# Altium footprint library Components - 08.08.24 - 17.PcbLib: 1 footprints
Each footprint in its own frame and in the unit in brackets; x right, y up, seen from the top. Pads: shape width x height; smd on the part's side, far side on the other; paste and mask are expansions set on the pad; w line width, h text height; cw(c..) or ccw(c..) is an arc to the next point about the centre after c.
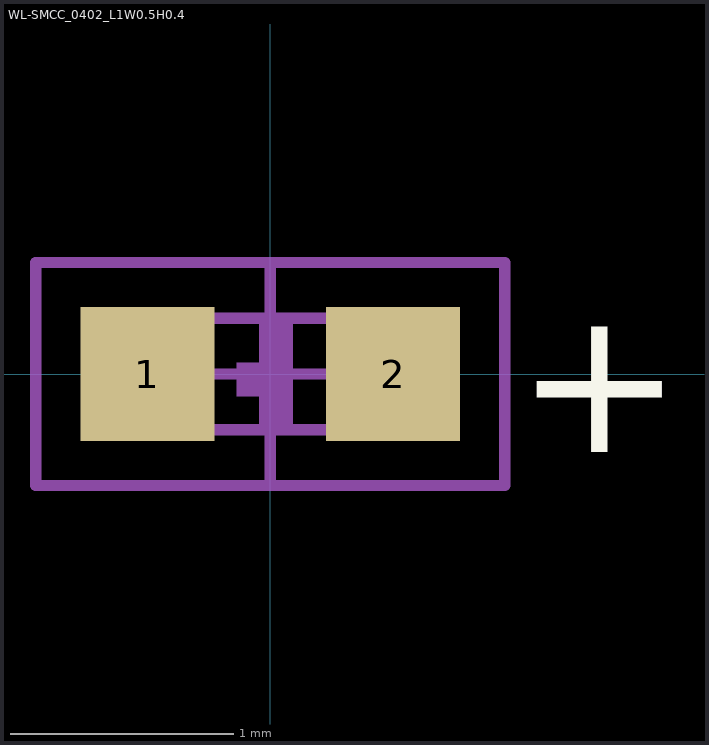
[diagram p0: the footprint, top view; thin cyan lines are the x and y axes]

## WL-SMCC_0402_L1W0.5H0.4 [mm] "SMD Mono-color Chip LED Compact, body 1x0.5mm"
height 0.4
pads (2):
  rect 0.6x0.6 smd: 1(-0.55,0) 2(0.55,0)
Top Overlay:
  text "+" at 1.1,-0.35 h0.7
Top Designator:
  text ".Designator" at -2.499,-0.167 h0.5
Top Component Outline:
  region: 0.1,0.25 0.1,-0.25 -0.05,-0.25 -0.05,-0.1 -0.15,-0.1 -0.15,0.05 -0.05,0.05 -0.05,0.25
  lines w0.05: -0.5,-0.25 0.5,-0.25 0.5,0.25 -0.5,0.25 -0.5,-0.25
Top Courtyard:
  lines w0.05: -0.5,0 0.5,0 ; 0,-0.5 0,0.5 ; -1.05,-0.5 1.05,-0.5 1.05,0.5 -1.05,0.5 -1.05,-0.5
3D body "150040xx73240.stp": height 0.4, standoff 0, extent -0.5,-0.25 0.5,0.25